# EAGLE library part HDR_2X3 (library RoboJackets-Connectors)
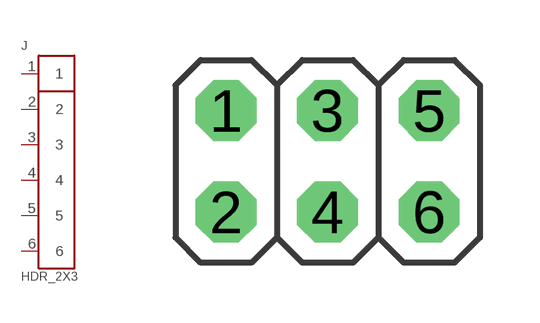
[diagram p8: symbol with the pads of HDR_2X3; footprint HDR_2X3]

Designator prefix J

## HDR_2X3  [HDR_2X3]
1  1
2  2
3  3
4  4
5  5
6  6

## Footprint HDR_2X3 (pad centres in mm)
drill 1.016 octagon: 1 -2.54,1.27; 2 -2.54,-1.27; 3 0,1.27; 4 0,-1.27; 5 2.54,1.27; 6 2.54,-1.27